# Altium footprint library CY7C1051H30-10ZSXIT.PcbLib: 1 footprints
Each footprint in its own frame and in the unit in brackets; x right, y up, seen from the top. Pads: shape width x height; smd on the part's side, far side on the other; paste and mask are expansions set on the pad; w line width, h text height; cw(c..) or ccw(c..) is an arc to the next point about the centre after c.
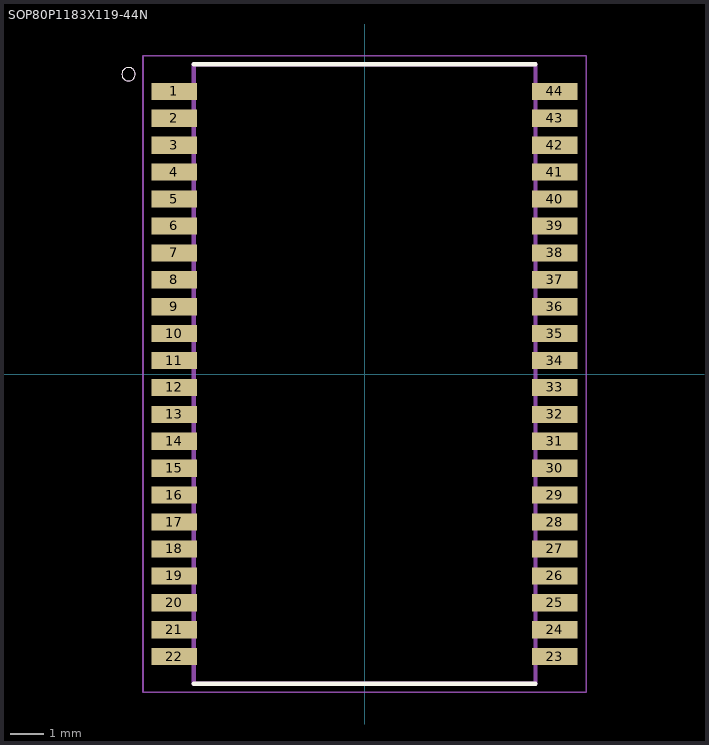
[diagram p0: the footprint, top view; thin cyan lines are the x and y axes]

## SOP80P1183X119-44N [mm]
pads (44):
  rect 1.36x0.51 smd: 1(-5.655,8.4) 2(-5.655,7.6) 3(-5.655,6.8) 4(-5.655,6) 5(-5.655,5.2) 6(-5.655,4.4) 7(-5.655,3.6) 8(-5.655,2.8) 9(-5.655,2) 10(-5.655,1.2) 11(-5.655,0.4) 12(-5.655,-0.4) 13(-5.655,-1.2) 14(-5.655,-2) 15(-5.655,-2.8) 16(-5.655,-3.6) 17(-5.655,-4.4) 18(-5.655,-5.2) 19(-5.655,-6) 20(-5.655,-6.8) 21(-5.655,-7.6) 22(-5.655,-8.4) 23(5.655,-8.4) 24(5.655,-7.6) 25(5.655,-6.8) 26(5.655,-6) 27(5.655,-5.2) 28(5.655,-4.4) 29(5.655,-3.6) 30(5.655,-2.8) 31(5.655,-2) 32(5.655,-1.2) 33(5.655,-0.4) 34(5.655,0.4) 35(5.655,1.2) 36(5.655,2) 37(5.655,2.8) 38(5.655,3.6) 39(5.655,4.4) 40(5.655,5.2) 41(5.655,6) 42(5.655,6.8) 43(5.655,7.6) 44(5.655,8.4)
Top Overlay:
  circle w0: c-7.015,8.91 r0.2
  lines w0.127: -5.08,-9.207 5.08,-9.207 ; -5.08,9.207 5.08,9.207
Mechanical 13:
  circle w0: c-7.015,8.91 r0.2
  circle w0: c-7.015,8.91 r0.2
  lines w0.127: -5.08,-9.207 5.08,-9.207 ; -5.08,-9.207 -5.08,9.207 ; -5.08,-9.207 5.08,-9.207 ; -5.08,-9.207 -5.08,9.207 ; -5.08,9.207 5.08,9.207 ; -5.08,9.207 5.08,9.207 ; 5.08,-9.207 5.08,9.207 ; 5.08,-9.207 5.08,9.207
Mechanical 15:
  lines w0.05: -6.585,-9.457 6.585,-9.457 6.585,9.457 -6.585,9.457 -6.585,-9.457
3D body "TSOP-44.step": height 1.2, standoff 0, extent -5.969,-9.258 5.969,9.258